# EAGLE library part 0900PC15J0013 (library rf)
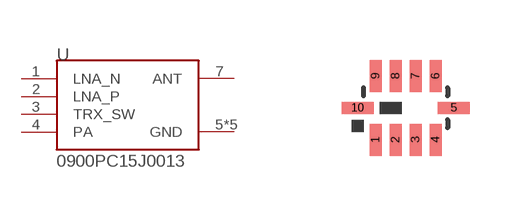
[diagram p4: symbol with the pads of 0900PC15J0013; footprint 0900PC15J0013]

Designator prefix U

## 0900PC15J0013  [0900PC15J0013]
1  LNA_N
2  LNA_P
3  TRX_SW
4  PA
5  GND
6  GND
7  ANT
8  GND
9  GND
10  GND

## Footprint 0900PC15J0013 (pad centres in mm)
smd 0.3 x 0.8: 1 -0.75,-0.8; 2 -0.25,-0.8; 3 0.25,-0.8; 4 0.75,-0.8; 6 0.75,0.8; 7 0.25,0.8; 8 -0.25,0.8; 9 -0.75,0.8
smd 0.8 x 0.3: 5 1.2,0; 10 -1.2,0